# Altium footprint library ds1013_06s.PcbLib: 1 footprints
Each footprint in its own frame and in the unit in brackets; x right, y up, seen from the top. Pads: shape width x height; smd on the part's side, far side on the other; paste and mask are expansions set on the pad; w line width, h text height; cw(c..) or ccw(c..) is an arc to the next point about the centre after c.
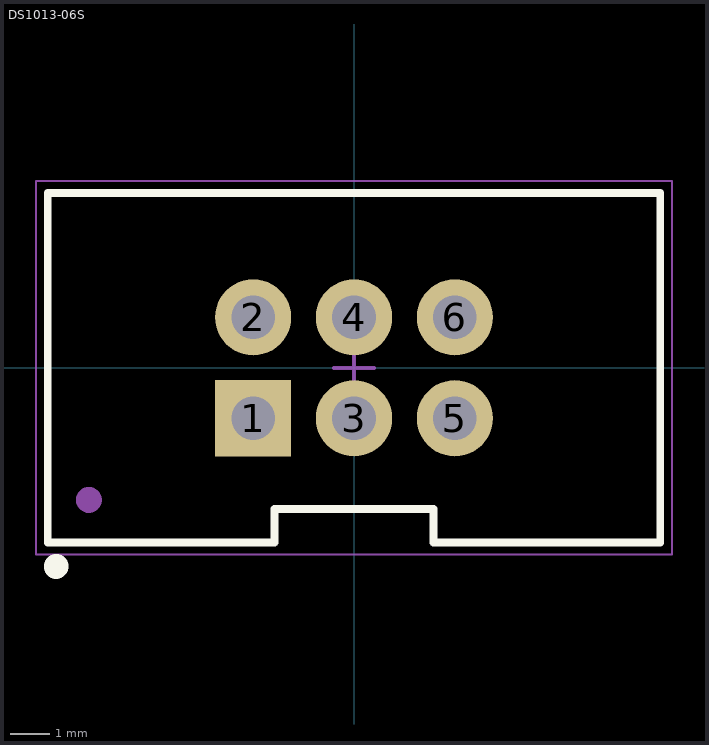
[diagram p0: the footprint, top view; thin cyan lines are the x and y axes]

## DS1013-06S [mm]
height 9
pads (6):
  rect 1.92x1.92 hole 1.1 mask+0.1: 1(-2.54,-1.27)
  round 1.92 hole 1.1 mask+0.1: 2(-2.54,1.27) 3(0,-1.27) 4(0,1.27) 5(2.54,-1.27) 6(2.54,1.27)
Top Overlay:
  circle w0.6: c-7.5,-5 r0.01
  lines w0.2: -7.71,-4.4 -7.71,4.4 7.71,4.4 7.71,-4.4 2.85,-4.4 2,-4.4 2,-3.55 -2,-3.55 -2,-4.4 -3.15,-4.4 -7.71,-4.4
Top Comment:
  text ".Comment" at 1.5,5 h1.2
Top Designator:
  text ".Designator" at 0,5 h1.2
Top Component Outline:
  circle w0.35: c-6.675,-3.325 r0.15
  lines w0.1: -7.71,-4.4 -2,-4.4 -2,-3.55 2,-3.55 2,-4.4 5.05,-4.4 7.71,-4.4 7.71,4.4 -7.71,4.4 -7.71,-4.4
Top Courtyard (Mech15):
  lines w0.05: -8.01,-4.7 8.01,-4.7 8.01,4.7 -8.01,4.7 -8.01,-4.7
  lines w0.1: -0.5,0 0.5,0 ; 0,-0.5 0,0.5
3D body "DS1013-6S (IDC-6MS CONNFLY).step": height 9, standoff -3.6, extent -7.71,-4.4 7.71,4.4